# Altium footprint library 0532610671.PcbLib: 1 footprints
Each footprint in its own frame and in the unit in brackets; x right, y up, seen from the top. Pads: shape width x height; smd on the part's side, far side on the other; paste and mask are expansions set on the pad; w line width, h text height; cw(c..) or ccw(c..) is an arc to the next point about the centre after c.
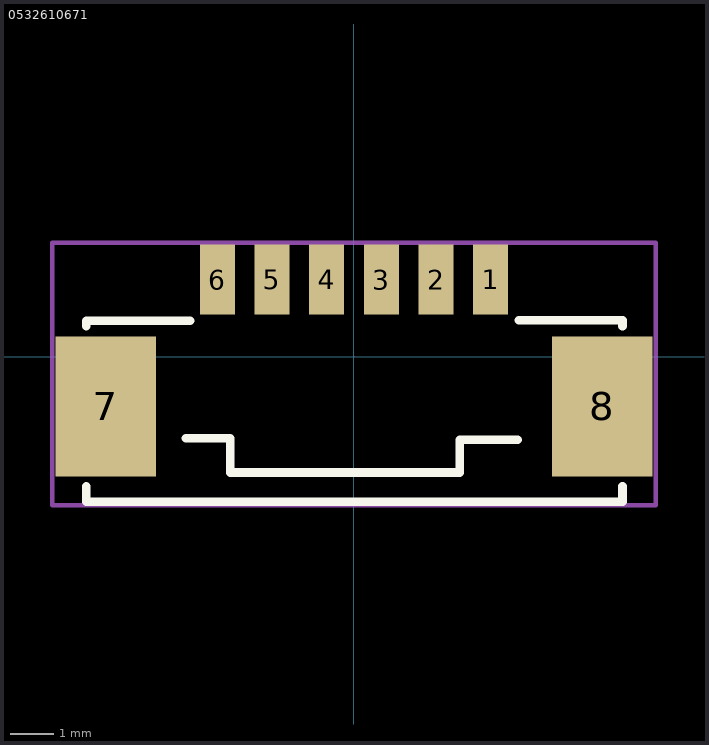
[diagram p0: the footprint, top view; thin cyan lines are the x and y axes]

## 0532610671 [mm]
height 0.9
pads (8):
  rect 0.8x1.6 smd: 1(3.125,1.759) 2(1.875,1.759) 3(0.625,1.759) 4(-0.625,1.759) 5(-1.875,1.759) 6(-3.125,1.759)
  rect 2.3x3.2 smd: 7(-5.675,-1.141) 8(5.675,-1.141)
Top Overlay:
  lines w0.2: -6.12,-2.972 -6.12,-3.321 6.14,-3.321 6.14,-2.972 ; -6.12,0.69 -6.12,0.819 -3.75,0.819 ; -3.84,-1.871 -2.83,-1.871 -2.83,-2.651 2.42,-2.651 2.42,-1.901 3.74,-1.901 ; 3.77,0.829 6.11,0.829 ; 6.14,0.69 6.14,0.829
Top Assembly:
  lines w0.1: -6.9,-3.4 -6.9,2.6 6.9,2.6 6.9,-3.4 -6.9,-3.4
  text "'.Designator'" at 0,0 h0.7
Mechanical 15:
  lines w0.003: 0,0.004 0,0.004
3D body "532610671.stp": height 3.4, standoff 0, extent -6.325,-3.175 6.325,2.025